# EAGLE library part CON8P2R (library ads)
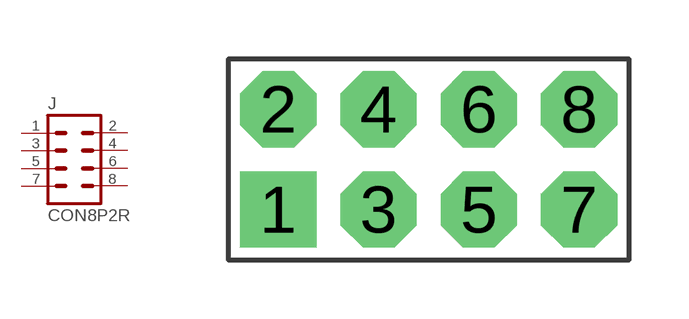
[diagram p11: symbol with the pads of CON8P2R; footprint CON8P2R]

Designator prefix J

## CON8P2R  [CON8P2R]
1  1  pas
2  2  pas
3  3  pas
4  4  pas
5  5  pas
6  6  pas
7  7  pas
8  8  pas

## Footprint CON8P2R (pad centres in mm)
drill 0.889 pad 1.93 square: 1 -3.81,-1.27
drill 0.889 pad 1.93 octagon: 2 -3.81,1.27; 3 -1.27,-1.27; 4 -1.27,1.27; 5 1.27,-1.27; 6 1.27,1.27; 7 3.81,-1.27; 8 3.81,1.27